# EAGLE library part SN65HVD232_D_8 (library pavlo)
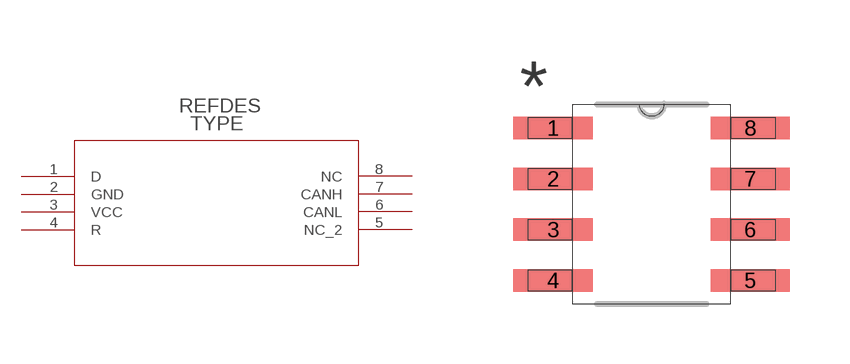
[diagram p10: symbol with the pads of D8; footprint D8]

Designator prefix U

## SN65HVD232_D_8  [D8]
1  D  pas
2  GND  pas
3  VCC  pas
4  R  pas
5  NC_2  pas
6  CANL  pas
7  CANH  pas
8  NC  pas

## Footprint D8 (pad centres in mm)
smd 1.981 x 0.559: 1 -2.464,1.905; 2 -2.464,0.635; 3 -2.464,-0.635; 4 -2.464,-1.905; 5 2.464,-1.905; 6 2.464,-0.635; 7 2.464,0.635; 8 2.464,1.905